# Altium footprint library 常用元件.PcbLib: 186 footprints (part 1 of 12)
Each footprint in its own frame and in the unit in brackets; x right, y up, seen from the top. Pads: shape width x height; smd on the part's side, far side on the other; paste and mask are expansions set on the pad; w line width, h text height; cw(c..) or ccw(c..) is an arc to the next point about the centre after c.
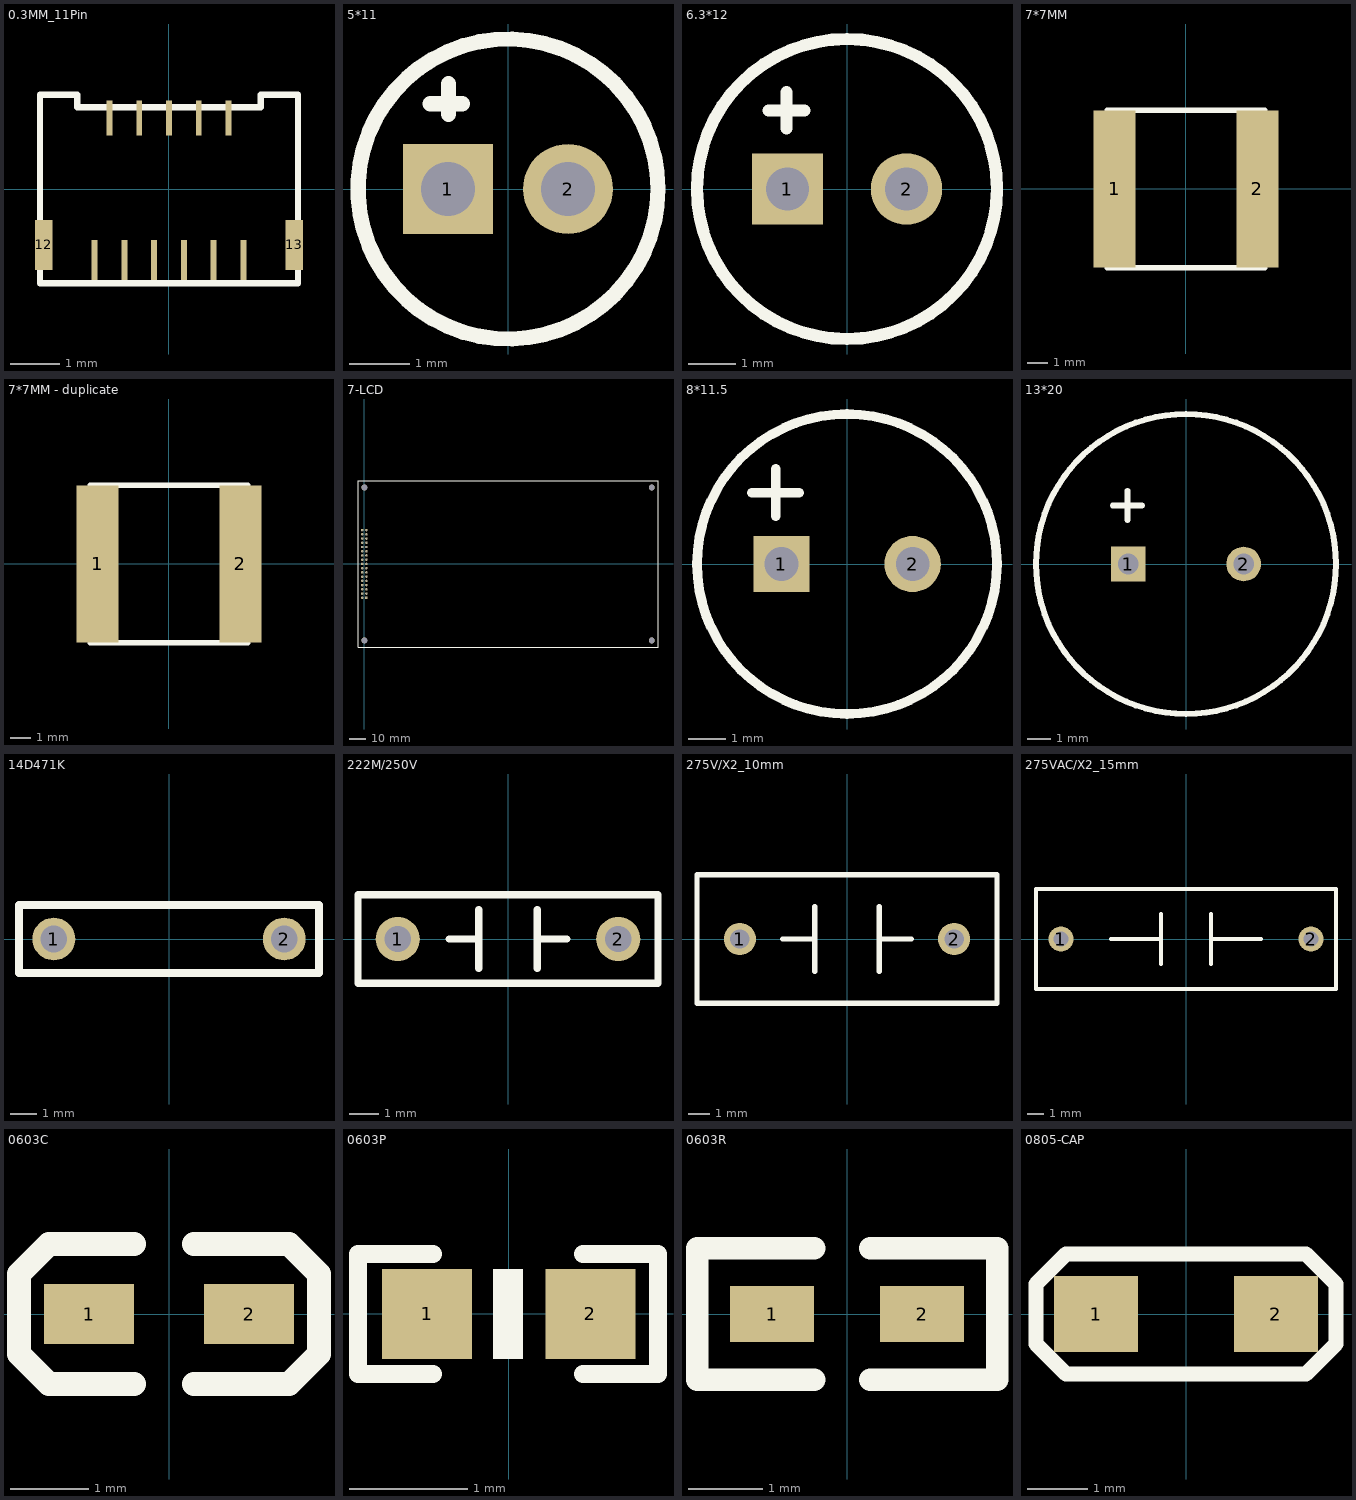
[diagram p0: the footprints below, top view; thin cyan lines are the x and y axes]

## 0.3MM_11Pin [mm]
pads (13):
  rect 0.12x0.8 smd: 1(1.5,-1.431) 3(0.9,-1.431) 5(0.3,-1.431) 7(-0.3,-1.431) 9(-0.9,-1.431) 11(-1.5,-1.431)
  rect 0.12x0.7 smd: 2(1.2,1.431) 4(0.6,1.431) 6(0,1.431) 8(-0.6,1.431) 10(-1.2,1.431)
  rect 0.35x1 smd: 12(-2.525,-1.129) 13(2.525,-1.129)
Top Overlay:
  lines w0.127: -2.6,-1.9 -2.6,1.9 -1.85,1.9 -1.85,1.65 1.85,1.65 1.85,1.9 2.6,1.9 2.6,-1.9 -2.6,-1.9

## 5*11 [mm]
pads (2):
  rect 1.5x1.5 hole 0.9: 1(-1,0)
  round 1.5 hole 0.9: 2(1,0)
Top Overlay:
  circle w0.254: c0,0 r2.5
  lines w0.254: -1.295,1.422 -0.762,1.422 ; -0.991,1.245 -0.991,1.753

## 6.3*12 [mm]
pads (2):
  rect 1.5x1.5 hole 0.9: 1(-1.25,0)
  round 1.5 hole 0.9: 2(1.25,0)
Top Overlay:
  circle w0.254: c0,0 r3.15
  lines w0.254: -1.651,1.651 -0.889,1.651 ; -1.27,1.27 -1.27,2.032

## 7*7MM [mm] "电感7X7MM"
pads (2):
  rect 2x7.5 smd: 1(-3.4,0) 2(3.4,0)
Top Overlay:
  lines w0.254: -3.75,-3.75 -3.75,3.75 3.75,3.75 3.75,-3.75 -3.75,-3.75

## 7*7MM - duplicate [mm] "电感7X7MM"
pads (2):
  rect 2x7.5 smd: 1(-3.4,0) 2(3.4,0)
Top Overlay:
  lines w0.254: -3.75,-3.75 3.75,-3.75 3.75,3.75 -3.75,3.75 -3.75,-3.75

## 7-LCD [mm] "正点原子7寸电容屏"
pads (38):
  round 3.5 hole 3.5: 0(0,-45.88) 0(0,45.88) 0(172.47,-45.88) 0(172.47,45.88)
  rect 1.5x1.5 hole 0.9: 1(1.27,-20.32)
  round 1.5 hole 0.9: 2(-1.27,-20.32) 3(1.27,-17.78) 4(-1.27,-17.78) 5(1.27,-15.24) 6(-1.27,-15.24) 7(1.27,-12.7) 8(-1.27,-12.7) 9(1.27,-10.16) 10(-1.27,-10.16) 11(1.27,-7.62) 12(-1.27,-7.62) 13(1.27,-5.08) 14(-1.27,-5.08) 15(1.27,-2.54) 16(-1.27,-2.54) 17(1.27,0) 18(-1.27,0) 19(1.27,2.54) 20(-1.27,2.54) 21(1.27,5.08) 22(-1.27,5.08) 23(1.27,7.62) 24(-1.27,7.62) 25(1.27,10.16) 26(-1.27,10.16) 27(1.27,12.7) 28(-1.27,12.7) 29(1.27,15.24) 30(-1.27,15.24) 31(1.27,17.78) 32(-1.27,17.78) 33(1.27,20.32) 34(-1.27,20.32)
Top Overlay:
  lines w0.254: -3.81,-50.04 -3.81,-25.04 -3.81,-5.04 -3.81,-0.04 -3.81,4.96 -3.81,24.96 -3.81,49.96 146.19,49.96 171.19,49.96 176.19,49.96 176.19,-50.04 -3.81,-50.04

## 8*11.5 [mm]
pads (2):
  rect 1.5x1.5 hole 0.9: 1(-1.75,0)
  round 1.5 hole 0.9: 2(1.75,0)
Top Overlay:
  circle w0.254: c0,0 r4
  lines w0.254: -2.54,1.905 -1.27,1.905 ; -1.905,1.27 -1.905,2.54

## 13*20 [mm]
pads (2):
  rect 1.5x1.5 hole 0.9: 1(-2.5,0)
  round 1.5 hole 0.9: 2(2.5,0)
Top Overlay:
  circle w0.254: c0,0 r6.5
  lines w0.254: -3.175,2.54 -1.905,2.54 ; -2.54,1.905 -2.54,3.175

## 14D471K [mm] "压敏电阻"
pads (2):
  round 1.6 hole 1: 1(-4.3,0) 2(4.3,0)
Top Overlay:
  lines w0.305: -5.6,-1.27 -5.6,1.27 5.6,1.27 5.6,-1.27 -5.6,-1.27

## 222M/250V [mm]
pads (2):
  round 1.5 hole 0.9: 1(-3.75,0) 2(3.75,0)
Top Overlay:
  lines w0.254: -2,0 -1,0 ; -1,-1 -1,1 ; 1,-1 1,1 ; 1,0 2,0 ; -5.1,-1.5 -5.1,1.5 5.1,1.5 5.1,-1.5 -5.1,-1.5

## 275V/X2_10mm [mm]
pads (2):
  round 1.5 hole 0.9: 1(-5,0) 2(5,0)
Top Overlay:
  lines w0.254: -3,0 -1.5,0 ; -1.5,-1.5 -1.5,1.5 ; 1.5,-1.5 1.5,1.5 ; 1.5,0 3,0 ; -7,-3 7,-3 7,3 -7,3 -7,-3

## 275VAC/X2_15mm [mm]
pads (2):
  round 1.5 hole 0.9: 1(-7.5,0) 2(7.5,0)
Top Overlay:
  lines w0.254: -4.5,0 -1.5,0 ; -1.5,-1.5 -1.5,1.5 ; 1.5,-1.5 1.5,1.5 ; 1.5,0 4.5,0 ; -9,-3 -9,3 9,3 9,-3 -9,-3

## 0603C [mil]
pads (2):
  rect 44.88x30 smd: 1(-40,0) 2(40,0)
Top Overlay:
  lines w12: -17.5,-35 -60,-35 -75,-20 -75,20 -60,35 -17.5,35 ; 12.5,-35 60,-35 75,-20 75,20 60,35 12.5,35

## 0603P [mil]
pads (2):
  rect 30x30 smd: 1(-27.25,0.03) 2(27.25,-0.03)
Top Overlay:
  region: 4.75,-15.03 4.75,14.97 -5.25,14.97 -5.25,-15.03
  lines w6: -25.25,-20.03 -50.25,-20.03 -50.25,19.97 -25.25,19.97 ; 24.75,-20.03 49.75,-20.03 49.75,19.97 24.75,19.97

## 0603R [mil]
pads (2):
  rect 44.88x30 smd: 1(-40,0) 2(40,0)
Top Overlay:
  lines w12: -17.5,-35 -80,-35 -80,35 -17.5,35 ; 12.5,-35 80,-35 80,35 12.5,35

## 0805-CAP [mm]
pads (2):
  rect 1.397x1.27 smd: 1(-1.5,0) 2(1.5,0)
Top Overlay:
  lines w0.254: -2.5,-0.5 -2,-1 -1.75,-1 1.75,-1 2,-1 2.5,-0.5 2.5,0.5 2,1 1.75,1 -1.75,1 -2,1 -2.5,0.5 -2.5,-0.5
3D body: height 0.5, standoff 0, extent -1,-0.625 1,0.625